# EAGLE library part CM,118_TJA1042 (library trans-emu)
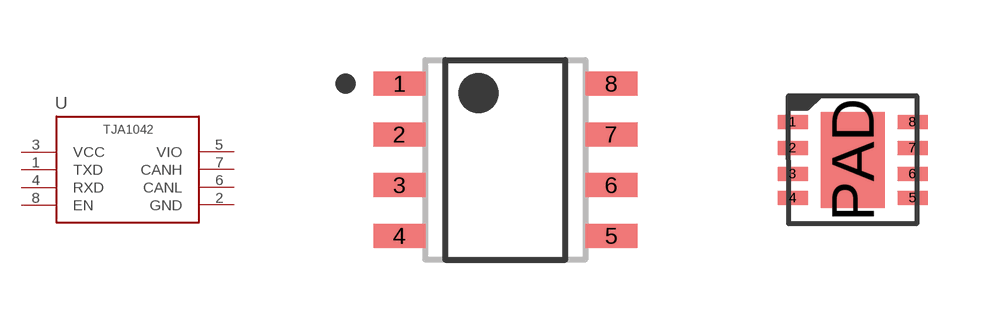
[diagram p1: symbol with the pads of CM,118_NXP_SEMICONDUCTORS_TJA1042T-3-CM_118_0; footprints CM,118_NXP_SEMICONDUCTORS_TJA1042T-3-CM_118_0, CM,118_HVSON8]

Designator prefix U

## CM,118_TJA1042  [CM,118_NXP_SEMICONDUCTORS_TJA1042T-3-CM_118_0]
1  TXD
2  GND
3  VCC
4  RXD
5  VIO
6  CANL
7  CANH
8  EN

## CM,118_TJA1042HVSON  [CM,118_HVSON8]
1  TXD
2  GND
3  VCC
4  RXD
5  VIO
6  CANL
7  CANH
8  EN
PAD  GND

## Footprint CM,118_NXP_SEMICONDUCTORS_TJA1042T-3-CM_118_0 (pad centres in mm)
CAN 1Mbps Standby 5V Automotive 8-Pin SO T/R
smd 1.3 x 0.6: 1 -2.65,1.905; 2 -2.65,0.635; 3 -2.65,-0.635; 4 -2.65,-1.905; 5 2.65,-1.905; 6 2.65,-0.635; 7 2.65,0.635; 8 2.65,1.905

## Footprint CM,118_HVSON8 (pad centres in mm)
smd 0.75 x 0.35: 1 -1.5,0.95; 2 -1.5,0.3; 3 -1.5,-0.35; 4 -1.5,-0.95; 5 1.5,-0.95; 6 1.5,-0.35; 7 1.5,0.3; 8 1.5,0.95
smd 1.6 x 2.4: PAD 0,0